# Altium schematic symbol library interfaces_mkio.SchLib: 2 symbols
Pins are listed as number, name and electrical type; pins without a type are passive.

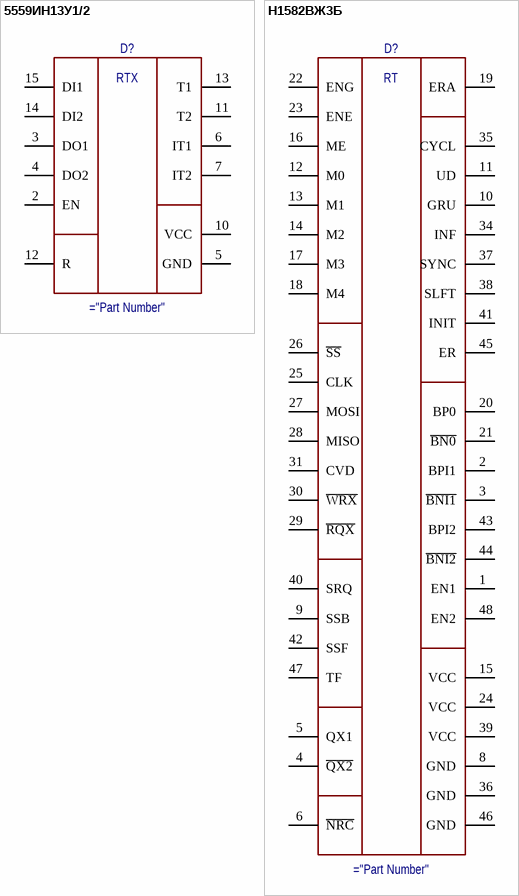
[diagram p0: symbols 5559ИН13У1/2 to Н1582ВЖ3Б]

## 5559ИН13У1/2
designator D?
МКИО (НПО Физика)
pins: 1 NC hidden, 2 EN, 3 DO1, 4 DO2, 5 GND, 6 IT1, 7 IT2, 8 NC hidden, 9 NC hidden, 10 VCC, 11 T2, 12 R, 13 T1, 14 DI2, 15 DI1, 16 NC hidden
text: RTX

## Н1582ВЖ3Б
designator D?
МКИО (НПО Физика)
pins: 1 EN1, 2 BPI1, 3 ~{BNI1}, 4 ~{QX2}, 5 QX1, 6 ~{NRC}, 7 NC hidden, 8 GND, 9 SSB, 10 GRU, 11 UD, 12 M0, 13 M1, 14 M2, 15 VCC, 16 ME, 17 M3, 18 M4, 19 ERA, 20 BP0, 21 ~{BN0}, 22 ENG, 23 ENE, 24 VCC, 25 CLK, 26 ~{SS}, 27 MOSI, 28 MISO, 29 ~{RQX}, 30 ~{WRX}, 31 CVD, 32 NC hidden, 33 NC hidden, 34 INF, 35 CYCL, 36 GND, 37 SYNC, 38 SLFT, 39 VCC, 40 SRQ, 41 INIT, 42 SSF, 43 BPI2, 44 ~{BNI2}, 45 ER, 46 GND, 47 TF, 48 EN2
text: RT